# EAGLE library part CY7C67300 (library IC)
Cypress CY7C67300 programmable USB dual-role controller
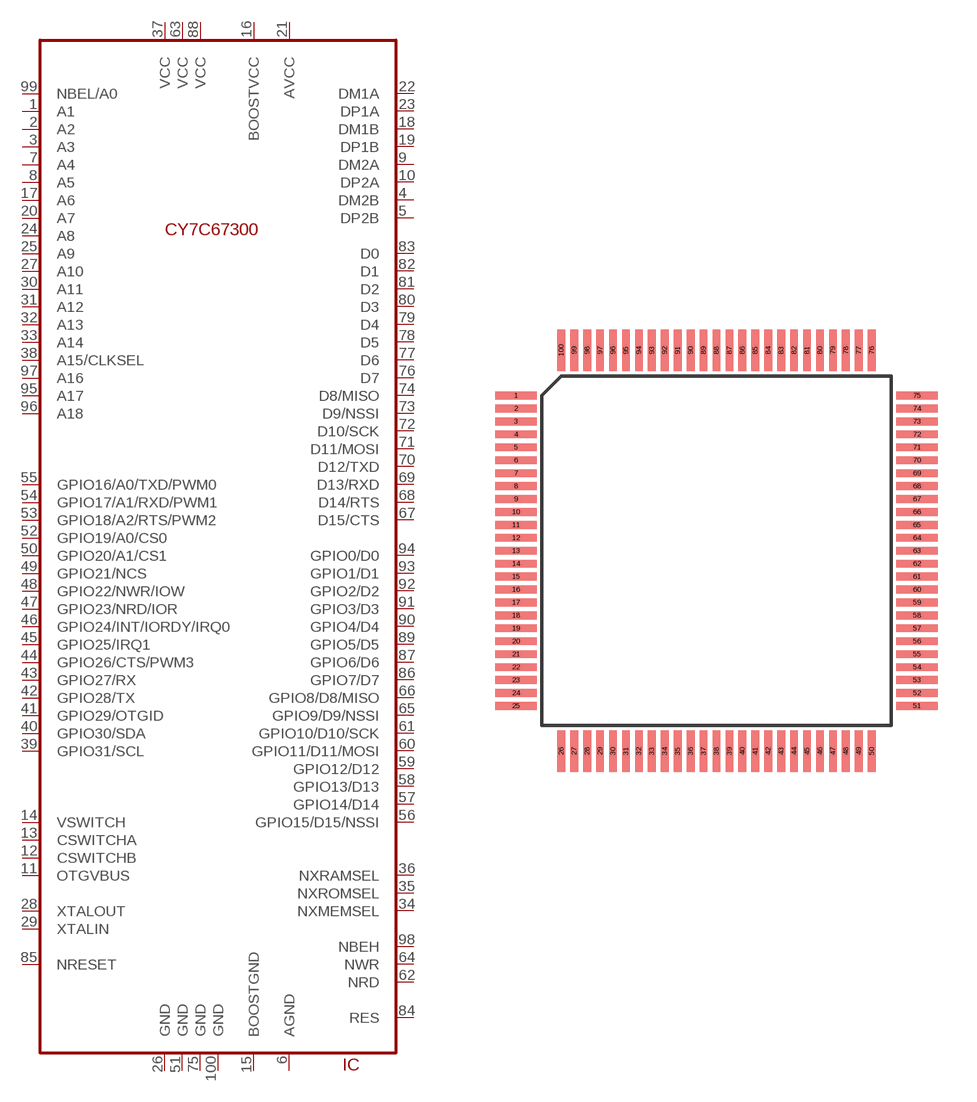
[diagram p75: symbol with the pads of TQFP100; footprint TQFP100]

Designator prefix IC

## CY7C67300  [TQFP100]
1  A1  out
2  A2  out
3  A3  out
4  DM2B
5  DP2B
6  AGND  pwr
7  A4  out
8  A5  out
9  DM2A
10  DP2A
11  OTGVBUS
12  CSWITCHB
13  CSWITCHA
14  VSWITCH
15  BOOSTGND  pwr
16  BOOSTVCC  pwr
17  A6  out
18  DM1B
19  DP1B
20  A7  out
21  AVCC  pwr
22  DM1A
23  DP1A
24  A8  out
25  A9  out
26  GND  pwr
27  A10  out
28  XTALOUT  out
29  XTALIN  in
30  A11  out
31  A12  out
32  A13  out
33  A14  out
34  NXMEMSEL  out
35  NXROMSEL  out
36  NXRAMSEL  out
37  VCC  pwr
38  A15/CLKSEL
39  GPIO31/SCL
40  GPIO30/SDA
41  GPIO29/OTGID
42  GPIO28/TX
43  GPIO27/RX
44  GPIO26/CTS/PWM3
45  GPIO25/IRQ1
46  GPIO24/INT/IORDY/IRQ0
47  GPIO23/NRD/IOR
48  GPIO22/NWR/IOW
49  GPIO21/NCS
50  GPIO20/A1/CS1
51  GND  pwr
52  GPIO19/A0/CS0
53  GPIO18/A2/RTS/PWM2
54  GPIO17/A1/RXD/PWM1
55  GPIO16/A0/TXD/PWM0
56  GPIO15/D15/NSSI
57  GPIO14/D14
58  GPIO13/D13
59  GPIO12/D12
60  GPIO11/D11/MOSI
61  GPIO10/D10/SCK
62  NRD  out
63  VCC  pwr
64  NWR  out
65  GPIO9/D9/NSSI
66  GPIO8/D8/MISO
67  D15/CTS
68  D14/RTS
69  D13/RXD
70  D12/TXD
71  D11/MOSI
72  D10/SCK
73  D9/NSSI
74  D8/MISO
75  GND  pwr
76  D7
77  D6
78  D5
79  D4
80  D3
81  D2
82  D1
83  D0
84  RES
85  NRESET  in
86  GPIO7/D7
87  GPIO6/D6
88  VCC  pwr
89  GPIO5/D5
90  GPIO4/D4
91  GPIO3/D3
92  GPIO2/D2
93  GPIO1/D1
94  GPIO0/D0
95  A17  out
96  A18  out
97  A16  out
98  NBEH  out
99  NBEL/A0  out
100  GND  pwr

## Footprint TQFP100 (pad centres in mm)
TQFP 100 pin, 0.5mm pitch, 25 x 25 square
smd 1.6 x 0.3: 1 -7.75,6; 2 -7.75,5.5; 3 -7.75,5; 4 -7.75,4.5; 5 -7.75,4; 6 -7.75,3.5; 7 -7.75,3; 8 -7.75,2.5; 9 -7.75,2; 10 -7.75,1.5; 11 -7.75,1; 12 -7.75,0.5; 13 -7.75,0; 14 -7.75,-0.5; 15 -7.75,-1; 16 -7.75,-1.5; 17 -7.75,-2; 18 -7.75,-2.5; 19 -7.75,-3; 20 -7.75,-3.5; 21 -7.75,-4; 22 -7.75,-4.5; 23 -7.75,-5; 24 -7.75,-5.5; 25 -7.75,-6; 51 7.75,-6; 52 7.75,-5.5; 53 7.75,-5; 54 7.75,-4.5; 55 7.75,-4; 56 7.75,-3.5; 57 7.75,-3; 58 7.75,-2.5; 59 7.75,-2; 60 7.75,-1.5; 61 7.75,-1; 62 7.75,-0.5; 63 7.75,0; 64 7.75,0.5; 65 7.75,1; 66 7.75,1.5; 67 7.75,2; 68 7.75,2.5; 69 7.75,3; 70 7.75,3.5; 71 7.75,4; 72 7.75,4.5; 73 7.75,5; 74 7.75,5.5; 75 7.75,6
smd 0.3 x 1.6: 26 -6,-7.75; 27 -5.5,-7.75; 28 -5,-7.75; 29 -4.5,-7.75; 30 -4,-7.75; 31 -3.5,-7.75; 32 -3,-7.75; 33 -2.5,-7.75; 34 -2,-7.75; 35 -1.5,-7.75; 36 -1,-7.75; 37 -0.5,-7.75; 38 0,-7.75; 39 0.5,-7.75; 40 1,-7.75; 41 1.5,-7.75; 42 2,-7.75; 43 2.5,-7.75; 44 3,-7.75; 45 3.5,-7.75; 46 4,-7.75; 47 4.5,-7.75; 48 5,-7.75; 49 5.5,-7.75; 50 6,-7.75; 76 6,7.75; 77 5.5,7.75; 78 5,7.75; 79 4.5,7.75; 80 4,7.75; 81 3.5,7.75; 82 3,7.75; 83 2.5,7.75; 84 2,7.75; 85 1.5,7.75; 86 1,7.75; 87 0.5,7.75; 88 0,7.75; 89 -0.5,7.75; 90 -1,7.75; 91 -1.5,7.75; 92 -2,7.75; 93 -2.5,7.75; 94 -3,7.75; 95 -3.5,7.75; 96 -4,7.75; 97 -4.5,7.75; 98 -5,7.75; 99 -5.5,7.75; 100 -6,7.75